# EAGLE library part ESP32-WROVER (library FansElectronics-Modul)
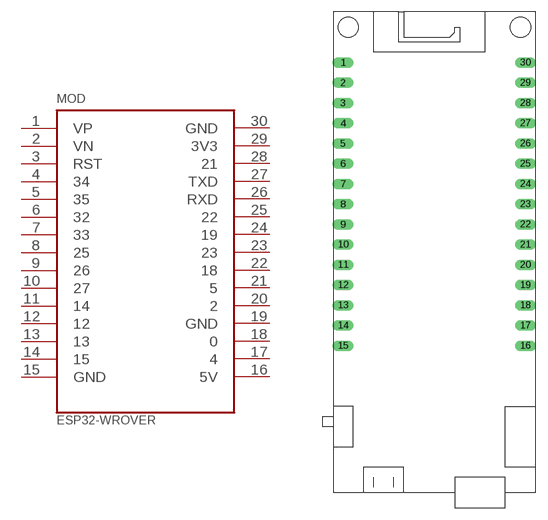
[diagram p15: symbol with the pads of ESP32-WROVER; footprint ESP32-WROVER]

Designator prefix MOD

## ESP32-WROVER  [ESP32-WROVER]
1  VP
2  VN
3  RST
4  34
5  35
6  32
7  33
8  25
9  26
10  27
11  14
12  12
13  13
14  15
15  GND
16  5V
17  4
18  0
19  GND
20  2
21  5
22  18
23  23
24  19
25  22
26  RXD
27  TXD
28  21
29  3V3
30  GND

## Footprint ESP32-WROVER (pad centres in mm)
drill 0.8 long: 1 -10.16,13.97; 2 -10.16,11.43; 3 -10.16,8.89; 4 -10.16,6.35; 5 -10.16,3.81; 6 -10.16,1.27; 7 -10.16,-1.27; 8 -10.16,-3.81; 9 -10.16,-6.35; 10 -10.16,-8.89; 11 -10.16,-11.43; 12 -10.16,-13.97; 13 -10.16,-16.51; 14 -10.16,-19.05; 15 -10.16,-21.59; 16 12.7,-21.59; 17 12.7,-19.05; 18 12.7,-16.51; 19 12.7,-13.97; 20 12.7,-11.43; 21 12.7,-8.89; 22 12.7,-6.35; 23 12.7,-3.81; 24 12.7,-1.27; 25 12.7,1.27; 26 12.7,3.81; 27 12.7,6.35; 28 12.7,8.89; 29 12.7,11.43; 30 12.7,13.97